# EAGLE library part SK-22H09-G5 (library switches)
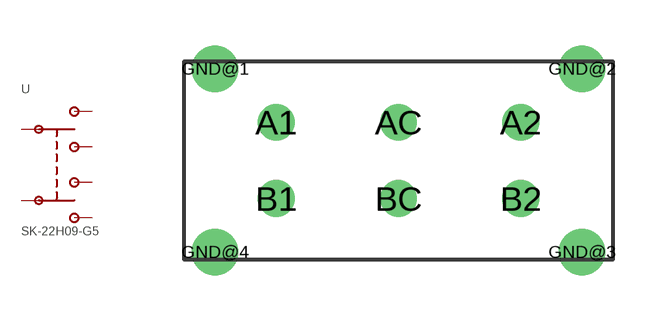
[diagram p0: symbol with the pads of SK-22H09-G5; footprint SK-22H09-G5]

Designator prefix -

## SK-22H09-G5  [SK-22H09-G5]
A1  A1
A2  A2
AC  AC
B1  B1
B2  B2
BC  BC

## Footprint SK-22H09-G5 (pad centres in mm)
drill 0.7: A1 -4,1.25; A2 4,1.25; AC 0,1.25; B1 -4,-1.25; B2 4,-1.25; BC 0,-1.25
drill 1: GND@1 -6,3; GND@2 6,3; GND@3 6,-3; GND@4 -6,-3